# Altium footprint library EMI Filter.PcbLib: 14 footprints
Each footprint in its own frame and in the unit in brackets; x right, y up, seen from the top. Pads: shape width x height; smd on the part's side, far side on the other; paste and mask are expansions set on the pad; w line width, h text height; cw(c..) or ccw(c..) is an arc to the next point about the centre after c.
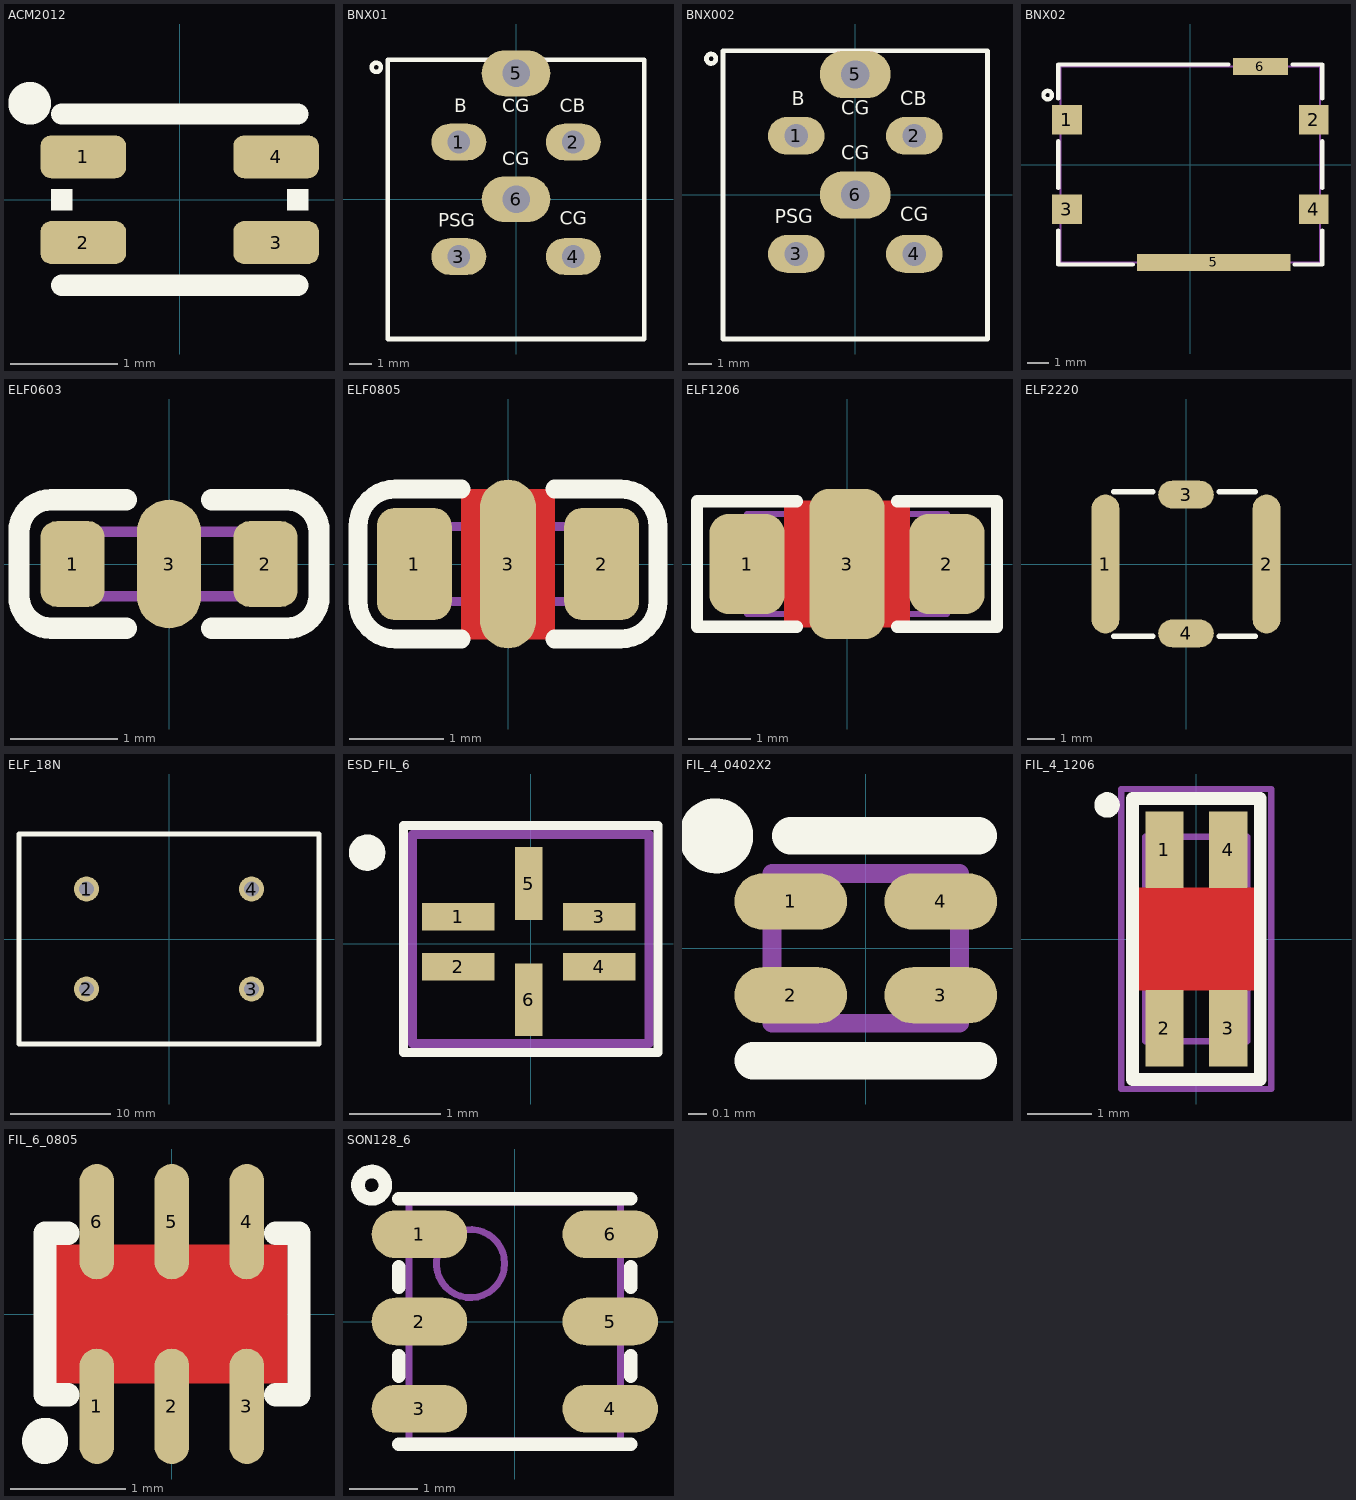
[diagram p0: the footprints below, top view; thin cyan lines are the x and y axes]

## ACM2012 [mm] "Common Mode Chokes TDK ACM2012"
pads (4):
  rrect50% 0.8x0.4 smd mask+0.1: 1(-0.9,0.4) 2(-0.9,-0.4) 3(0.9,-0.4) 4(0.9,0.4)
Top Overlay:
  circle w0.2: c-1.4,0.9 r0.1
  region: 1.2,0.1 1,0.1 1,-0.1 1.2,-0.1
  rectangle: -1.2,-0.1 -1,0.1
  lines w0.2: -1.1,-0.8 1.1,-0.8 ; -1.1,0.8 1.1,0.8
Mechanical 29:
  text ".Designator" at 0.3,0.1 h0.4
3D body "User Library-ACM2012-2P.step": height 1.3, standoff 0, extent -1,-0.6 1,0.6

## BNX01 [mm] "MURATA EMIFIL"
height 15
pads (6):
  oval 2.4x1.6 hole 1: 1(-2.5,2.5) 2(2.5,2.5) 3(-2.5,-2.5) 4(2.5,-2.5)
  oval 3x2 hole 1.2: 5(0,5.5) 6(0,0)
Top Overlay:
  circle w0.2: c-6.102,5.764 r0.2
  lines w0.2: -5.6,-6.1 5.6,-6.1 5.6,6.1 -5.6,6.1 -5.6,-6.1
  text "CG" at -0.6,3.6 h1
  text "CG" at -0.6,1.3 h1
  text "PSG" at -3.4,-1.4 h1
  text "CG" at 1.9,-1.3 h1
  text "CB" at 1.9,3.6 h1
  text "B" at -2.7,3.6 h1
3D body "User Library-BNX012-01.step": height 8, standoff -4, extent -5.5,-6 5.5,6

## BNX002 [mm] "MURATA EMIFIL"
height 15
pads (6):
  oval 2.4x1.6 hole 1: 1(-2.5,2.5) 2(2.5,2.5) 3(-2.5,-2.5) 4(2.5,-2.5)
  oval 3x2 hole 1.2: 5(0,5.1) 6(0,0)
Top Overlay:
  circle w0.2: c-6.102,5.764 r0.2
  lines w0.2: -5.6,-6.1 -5.6,6.1 5.6,6.1 5.6,-6.1 -5.6,-6.1
  text "B" at -2.7,3.6 h1
  text "CB" at 1.9,3.6 h1
  text "CG" at 1.9,-1.3 h1
  text "PSG" at -3.4,-1.4 h1
  text "CG" at -0.6,1.3 h1
  text "CG" at -0.6,3.2 h1
3D body "User Library-Murata_BNX002.STEP": height 12.5, standoff -5, extent -5.5,-6 5.5,6

## BNX02 [mm] "MURATA EMIFIL SMD BNX023-01, BNX022"
height 3.1
pads (6):
  rect 1.4x1.4 smd mask+0.1: 1(-5.8,2.1) 2(5.8,2.1) 3(-5.8,-2.1) 4(5.8,-2.1)
  rect 7.2x0.8 smd: 5(1.1,-4.6)
  rect 2.6x0.8 smd: 6(3.3,4.6)
Top Overlay:
  circle w0.2: c-6.702,3.264 r0.2
  lines w0.2: -6.2,-3.1 -6.2,-4.7 -2.7,-4.7 ; -6.2,-1.1 -6.2,1.1 ; -6.2,3.1 -6.2,4.7 1.8,4.7 ; 4.8,4.7 6.2,4.7 6.2,3.1 ; 4.9,-4.7 6.2,-4.7 6.2,-3.1 ; 6.2,-1.1 6.2,1.1
Mechanical 13:
  lines w0.1: -6.1,-4.6 -6.1,4.6 6.1,4.6 6.1,-4.6 -6.1,-4.6
3D body "User Library-BNX022.step": height 3.1, standoff 0, extent -6.05,-4.55 6.05,4.55

## ELF0603 [mm] "1.6x0.8mm ELF NF MURATA EMI FILTER"
height 0.6
pads (3):
  rrect50% 0.6x0.8 smd mask+0.075: 1(-0.9,0) 2(0.9,0)
  oval 0.6x1.2 smd mask+0.075: 3(0,0)
Top Overlay:
  lines w0.2: -0.4,-0.6 -1.1,-0.6 cw(c-1.1,-0.3) -1.4,-0.3 -1.4,0.3 cw(c-1.1,0.3) -1.1,0.6 -0.4,0.6 ; 0.4,-0.6 1.1,-0.6 ccw(c1.1,-0.3) 1.4,-0.3 1.4,0.3 ccw(c1.1,0.3) 1.1,0.6 0.4,0.6
Mechanical 13:
  lines w0.1: -0.8,-0.3 -0.8,0.3 0.8,0.3 0.8,-0.3 -0.8,-0.3
3D body: height 0.6, standoff 0, extent -0.8,-0.3 0.8,0.3

## ELF0805 [mm]
height 0.6
pads (3):
  rrect50% 0.8x1.2 smd mask+0.075: 1(-1,0) 2(1,0)
  oval 0.6x1.8 smd mask+0.075: 3(0,0)
Top Layer:
  pour cut-out: -0.5,0.8 0.5,0.8 0.5,-0.8 -0.5,-0.8
Top Overlay:
  lines w0.2: -0.5,-0.8 -1.2,-0.8 cw(c-1.2,-0.4) -1.6,-0.4 -1.6,0.4 cw(c-1.2,0.4) -1.2,0.8 -0.5,0.8 ; 0.5,-0.8 1.2,-0.8 ccw(c1.2,-0.4) 1.6,-0.4 1.6,0.4 ccw(c1.2,0.4) 1.2,0.8 0.5,0.8
Mechanical 13:
  lines w0.1: -1,-0.4 1,-0.4 1,0.4 -1,0.4 -1,-0.4
3D body: height 0.8, standoff 0, extent -1,-0.4 1,0.4

## ELF1206 [mm] "320X160ELF"
height 2
pads (3):
  rrect50% 1.2x1.6 smd mask+0.075: 1(-1.6,0) 2(1.6,0)
  rrect50% 1.2x2.4 smd mask+0.075: 3(0,0)
Top Layer:
  pour cut-out: -1,1.016 1,1.016 1,-1.016 -1,-1.016
Top Overlay:
  lines w0.2: -0.8,-1 -2.4,-1 -2.4,1 -0.8,1 ; 0.8,-1 2.4,-1 2.4,1 0.8,1
Mechanical 13:
  lines w0.1: -1.6,-0.8 -1.6,0.8 1.6,0.8 1.6,-0.8 -1.6,-0.8
3D body: height 2, standoff 0, extent -1.6,-0.8 1.6,0.8

## ELF2220 [mm] "NFM46P11 5.7X5.00mm, NFM2220"
pads (4):
  oval 1x5 smd: 1(-2.9,0) 2(2.9,0)
  oval 2x1 smd: 3(0,2.5) 4(0,-2.5)
Top Overlay:
  lines w0.2: -2.6,-2.6 -1.2,-2.6 ; -2.6,2.6 -1.2,2.6 ; 1.2,-2.6 2.5,-2.6 ; 1.2,2.6 2.5,2.6
3D body: height 2.2, standoff 0, extent -2.9,-2.5 2.9,2.5

## ELF_18N [mm] "LINE FILTER"
height 0.6
pads (4):
  round 2.5 hole 1.5: 1(-8.25,5) 2(-8.25,-5) 3(8.25,-5) 4(8.25,5)
Top Overlay:
  lines w0.5: -15,-10.5 15,-10.5 15,10.5 -15,10.5 -15,-10.5
3D body: height 30, standoff 0, extent -14.5,-10 14.5,10

## ESD_FIL_6 [mm]
pads (6):
  rect 0.8x0.3 smd mask+0.05: 1(-0.797,0.295) 2(-0.797,-0.255) 3(0.753,0.295) 4(0.753,-0.255)
  rect 0.3x0.8 smd mask+0.05: 5(-0.022,0.66) 6(-0.022,-0.62)
Top Overlay:
  circle w0.2: c-1.8,1 r0.1
  lines w0.1: -1.4,-1.2 -1.4,1.3 1.4,1.3 1.4,-1.2 -1.4,-1.2
Mechanical 13:
  lines w0.1: -1.3,-1.1 1.3,-1.1 1.3,1.2 -1.3,1.2 -1.3,-1.1
3D body: height 1, standoff 0, extent -1.3,-1.1 1.3,1.2

## FIL_4_0402X2 [mm] "0402X2, 0302, 0.85x0.65mm ,CommMode NoiseFilter"
height 0.4
pads (4):
  oval 0.6x0.3 smd mask+0.075: 1(-0.4,0.25) 2(-0.4,-0.25) 3(0.4,-0.25) 4(0.4,0.25)
Top Overlay:
  circle w0.2: c-0.8,0.6 r0.1
  lines w0.2: -0.6,-0.6 0.6,-0.6 ; -0.4,0.6 0.6,0.6
Mechanical 13:
  lines w0.1: -0.5,-0.4 -0.5,0.4 0.5,0.4 0.5,-0.4 -0.5,-0.4
3D body: height 0.4, standoff 0, extent -0.5,-0.4 0.5,0.4

## FIL_4_1206 [mm] "transformer LINE FILTER, 4-Leads, Body 3.2x1.6mm"
height 2
pads (4):
  rect 0.6x1.2 smd: 1(-0.5,1.4) 2(-0.5,-1.4) 3(0.5,-1.4) 4(0.5,1.4)
Top Layer:
  pour cut-out: 1,0.8 -1,0.8 -1,-0.8 1,-0.8
Top Overlay:
  circle w0.2: c-1.4,2.1 r0.1
  lines w0.2: -1,-2.2 -1,2.2 1,2.2 1,-2.2 -1,-2.2
Mechanical 13:
  lines w0.1: -0.8,-1.6 0.8,-1.6 0.8,1.6 -0.8,1.6 -0.8,-1.6
Mechanical 15:
  lines w0.1: -0.5,0 0.5,0 ; 0,-0.5 0,0.5 ; -1.175,-2.35 1.175,-2.35 1.175,2.35 -1.175,2.35 -1.175,-2.35
3D body: height 2, standoff 0, extent -0.8,-1.6 0.8,1.6

## FIL_6_0805 [mm] "Ceramic Chip Balun, 0805, 6-Lead"
height 2
pads (6):
  oval 0.3x1 smd mask+0.075: 1(-0.65,-0.8) 2(0,-0.8) 3(0.65,-0.8) 4(0.65,0.8) 5(0,0.8) 6(-0.65,0.8)
Top Layer:
  pour cut-out: -1,0.6 1,0.6 1,-0.6 -1,-0.6
Top Overlay:
  circle w0.2: c-1.1,-1.1 r0.1
  lines w0.2: -0.9,-0.7 -1.1,-0.7 -1.1,0.7 -0.9,0.7 ; 0.9,-0.7 1.1,-0.7 1.1,0.7 0.9,0.7
3D body: height 1.05, standoff 1, extent -0.8,-0.175 -0.5,0.175
3D body: height 1.05, standoff 0, extent -0.8,0.35 -0.5,0.65
3D body: height 1.05, standoff 0, extent -0.15,0.35 0.15,0.65
3D body: height 1.05, standoff 0, extent 0.5,0.35 0.8,0.65
3D body: height 1.05, standoff 0, extent 0.5,-0.65 0.8,-0.35
3D body: height 1.05, standoff 0, extent -0.15,-0.65 0.15,-0.35
3D body: height 1, standoff 0.05, extent -1,-0.625 1,0.625
3D body: height 1.05, standoff 0, extent -0.8,-0.65 -0.5,-0.35

## SON128_6 [mm] "SFECF10M7, 3.1X3.45X1.3mm, 1.28mm pitch"
height 1.3
pads (6):
  oval 1.4x0.7 smd: 1(-1.4,1.28) 2(-1.4,0) 3(-1.4,-1.28) 4(1.4,-1.28) 5(1.4,0) 6(1.4,1.28)
Top Overlay:
  circle w0.2: c-2.1,2 r0.2
  lines w0.2: -1.7,-1.8 1.7,-1.8 ; -1.7,-0.8 -1.7,-0.5 ; -1.7,0.5 -1.7,0.8 ; -1.7,1.8 1.7,1.8 ; 1.7,-0.8 1.7,-0.5 ; 1.7,0.5 1.7,0.8
Mechanical 13:
  circle w0.1: c-0.65,0.85 r0.5
  lines w0.1: -1.55,-1.75 -1.55,1.75 1.55,1.75 1.55,-1.75 -1.55,-1.75
3D body "QFN127P600-8N.step": height 1.3, standoff 0, extent -1.551,-1.75 1.551,1.75